# Altium footprint library PCB_Lib.PcbLib: 296 footprints (part 12 of 19)
Each footprint in its own frame and in the unit in brackets; x right, y up, seen from the top. Pads: shape width x height; smd on the part's side, far side on the other; paste and mask are expansions set on the pad; w line width, h text height; cw(c..) or ccw(c..) is an arc to the next point about the centre after c.
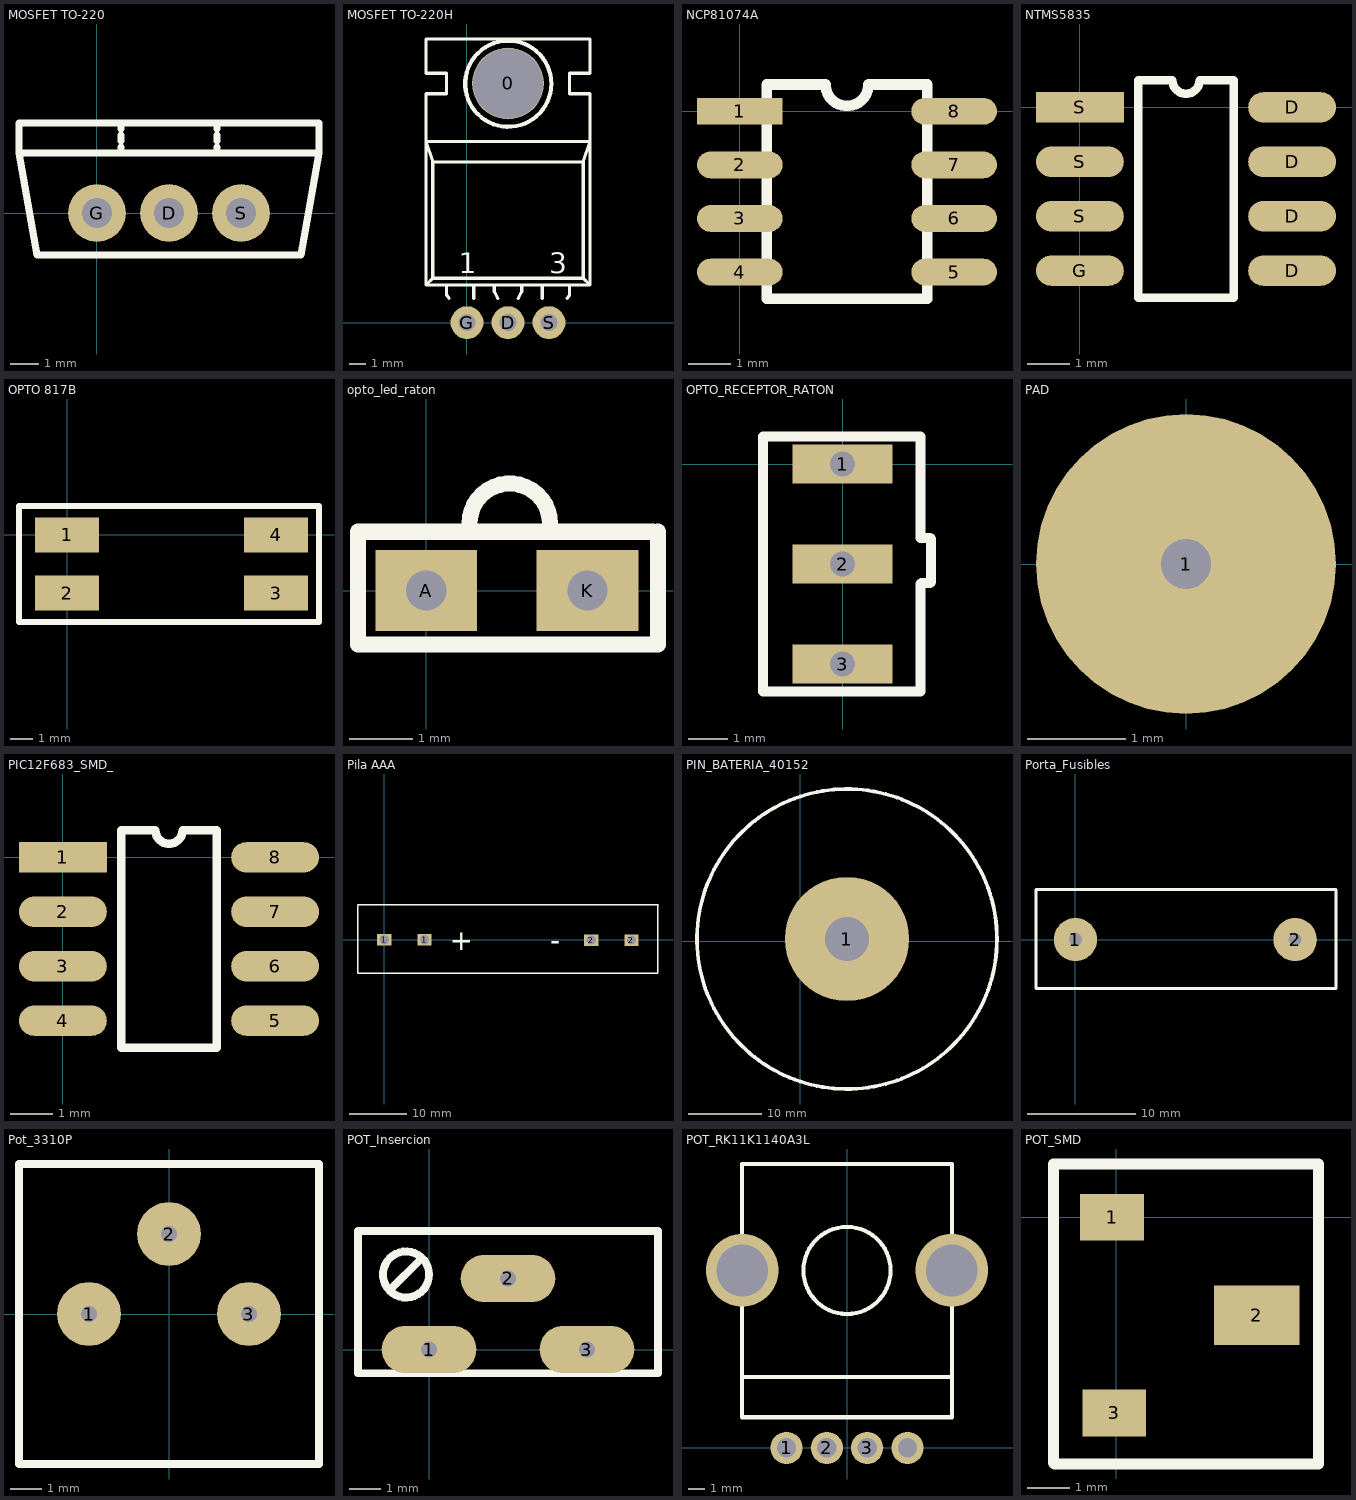
[diagram p11: the footprints below, top view; thin cyan lines are the x and y axes]

## MOSFET TO-220 [mil]
pads (3):
  round 80 hole 42: D(100,0) G(0,0) S(200,0)
Top Overlay:
  lines w10: 33.33,83.33 33.33,91.67 ; 33.33,100 33.33,108.33 ; 33.33,116.67 33.33,125 ; 166.67,83.33 166.67,91.67 ; 166.67,100 166.67,108.33 ; 166.67,116.67 166.67,125 ; -108.33,83.33 308.33,83.33 ; -108.33,83.33 -83.33,-58.33 283.33,-58.33 308.33,83.33 ; -108.33,83.33 -108.33,125 308.33,125 308.33,83.33

## MOSFET TO-220H [mil]
pads (4):
  round 175 hole 170: 0(100,583.33)
  round 80 hole 42: D(100,0) G(0,0) S(200,0)
Top Overlay:
  circle w10: c100.67,582.53 r105
  lines w7.87: -50,66.67 -50,91.67 ; -48.11,65.41 -43.58,59.05 ; 16.67,59.05 16.67,91.67 ; 66.67,91.67 66.67,75 75,59.05 ; 125,59.05 133.33,75 133.33,91.67 ; 183.33,59.05 183.33,91.67 ; 243.9,59.05 250.31,67.61 ; 250,66.67 250,91.67 ; -100,91.67 -100,558.33 -50,558.33 -50,608.33 -100,608.33 -100,691.67 300,691.67 300,608.33 250,608.33 250,558.33 300,558.33 300,91.67 ; -100,91.67 300,91.67 ; -100,91.67 -83.33,108.33 ; -83.33,108.33 -83.33,391.67 ; -83.33,108.33 283.33,108.33 ; -83.33,391.67 -100,441.67 300,441.67 283.33,391.67 ; -83.33,391.67 283.33,391.67 ; 283.33,108.33 283.33,391.67 ; 283.33,108.33 300,91.67
  text "3" at 200,120 h50
  text "1" at -20,120 h50

## NCP81074A [mil] "Driver"
pads (8):
  rect 80x25 smd: 1(0,0)
  oval 80x25 smd: 2(0,-50) 3(0,-100) 4(0,-150) 5(200,-150) 6(200,-100) 7(200,-50) 8(200,0)
Top Overlay:
  lines w10: 25,-175 25,25 80,25 ccw(c100,25) 120,25 175,25 175,-175 25,-175

## NTMS5835 [mm]
pads (8):
  oval 2.05x0.71 smd: D(4.95,-3.81) D(4.95,-2.54) D(4.95,-1.27) D(4.95,0) G(0,-3.81) S(0,-2.54) S(0,-1.27)
  rect 2.05x0.71 smd: S(0,0)
Top Overlay:
  lines w0.2: 1.36,-4.445 3.59,-4.445 3.59,0.635 2.792,0.635 cw(c2.475,0.635) 2.157,0.635 1.36,0.635 1.36,-4.445

## OPTO 817B [mil]
pads (4):
  rect 110x60 smd: 1(0,0) 2(0,-100) 3(360,-100) 4(360,0)
Top Overlay:
  lines w10: -82.68,-150 -82.68,50 434.06,50 434.06,-150 -82.68,-150

## opto_led_raton [mm]
pads (2):
  rect 1.6x1.27 hole 0.635: A(0,0) K(2.54,0)
Top Overlay:
  lines w0.254: 0.68,1.05 cw(c1.315,1.05) 1.95,1.05 ; -1.075,0.925 -1.075,-0.85 3.65,-0.85 ; -1.075,0.925 3.575,0.925 -1.075,0.925 ; 3.65,-0.85 3.65,0.925 3.65,-0.85

## OPTO_RECEPTOR_RATON [mm]
pads (3):
  rect 2.54x1 hole 0.635: 1(0,0) 2(0,-2.54) 3(0,-5.08)
Top Overlay:
  lines w0.254: 1.975,-3.05 1.975,-5.775 -2.025,-5.775 -2.025,0.7 1.975,0.7 1.975,-1.875 2.225,-1.875 2.25,-1.9 2.25,-3 2.225,-3.025 2,-3.025 ; 1.975,-3.05 2,-3.025 ; 1.975,-3.05 2,-3.025

## PAD [mil] "Simplemente un PAD"
pads (1):
  round 120 hole 20: 1(0,0)

## PIC12F683_SMD_ [mm]
pads (8):
  rect 2.05x0.71 smd: 1(0,0)
  oval 2.05x0.71 smd: 2(0,-1.27) 3(0,-2.54) 4(0,-3.81) 5(4.95,-3.81) 6(4.95,-2.54) 7(4.95,-1.27) 8(4.95,0)
Top Overlay:
  lines w0.2: 1.36,-4.445 3.59,-4.445 3.59,0.635 2.792,0.635 cw(c2.475,0.635) 2.157,0.635 1.36,0.635 1.36,-4.445

## Pila AAA [mm]
pads (4):
  rect 2.5x2 hole 1.62: 1(0,0) 1(7,0) 2(35.925,-0.05) 2(42.925,-0.05)
Top Overlay:
  lines w0.254: 47.45,-5.8 47.475,-5.775 ; 47.45,-5.8 -4.55,-5.8 -4.55,0.075 -4.55,6.075 47.525,6.075 47.475,6.025 47.475,-0.125 47.475,-5.775 ; 47.45,-5.8 47.475,-5.775
  text "+" at 11.35,-1.775 h3.52
  text "-" at 28.85,-1.775 h3.52
3D body "CLIP AAA.STEP": height 17.85, standoff -2.86, extent 35.643,-7.875 45.157,7.885
3D body "CLIP AAA.STEP": height 17.85, standoff -2.86, extent -2.257,-8.15 7.257,7.61
3D body "User Library-AAA Battery-2.STEP": height 15.28, standoff 5.03, extent -0.475,-5.075 43.875,5.175

## PIN_BATERIA_40152 [mm]
pads (1):
  round 17 hole 6: 1(6.375,0.305)
Top Overlay:
  circle w0.5: c6.375,0.305 r20.5

## Porta_Fusibles [mm]
pads (2):
  round 4 hole 1.2: 1(0,0) 2(20.32,0)
Top Overlay:
  lines w0.305: -3.65,-4.525 -3.65,4.625 24.1,4.625 24.1,-4.525 -3.65,-4.525

## Pot_3310P [mil] "Resistencia Variable Rectangular"
pads (3):
  round 80 hole 20: 1(-100,0) 2(0,100) 3(100,0)
Top Overlay:
  lines w10: -187.5,-187.5 -187.5,187.5 187.5,187.5 187.5,-187.5 -187.5,-187.5

## POT_Insercion [mil] "Resistencia Variable Rectangular"
pads (3):
  oval 120x60 hole 20: 1(0,0) 2(100,90) 3(200,0)
Top Overlay:
  circle w10: c-29.16,95 r29.16
  lines w10: -50,75 -10,115 ; -90,-30 -90,150 290,150 290,-30 -90,-30

## POT_RK11K1140A3L [mm]
pads (4):
  round 2 hole 1.2: 1(-3.75,0) 2(-1.25,0) 3(1.25,0) ""(3.75,0)
via 6.5,11 diameter 4.5 hole 3.2
via -6.5,11 diameter 4.5 hole 3.2
Top Overlay:
  circle w0.254: c0,11 r2.7
  lines w0.254: -6.5,4.4 6.5,4.4 ; -6.5,1.9 -6.5,17.6 6.5,17.6 6.5,1.9 -6.5,1.9

## POT_SMD [mm]
pads (3):
  rect 1.5x1.1 smd: 1(-0.1,0) 3(-0.05,-4.6)
  rect 2x1.4 smd: 2(3.3,-2.3)
Top Overlay:
  lines w0.254: -1.075,-5.8 4.75,-5.8 4.75,1.25 -1.475,1.25 -1.475,-5.775 -1.45,-5.8 -0.875,-5.8